# EAGLE library part TMCS1107A1BQDRQ1 (library TMCS1107A1BQDRQ1)
Board Mount Current Sensors AEC-Q100, +/-420-V isolated Hall-effect current sensor with internal reference 8-SOIC -40 to 125 Source: Datasheet <https://www.ti.com/lit/ds/symlink/tmcs1107-q1.pdf?ts=1634009705469&ref_url=https%3A%2F%2Fwww.ti.com%2Fsitesearch%2Fdocs%2Funiversalsearch.tsp%3FlangPref%3Den-US%26searchTerm%3DTMCS1107A4UQDRQ1%26nr%3D2>
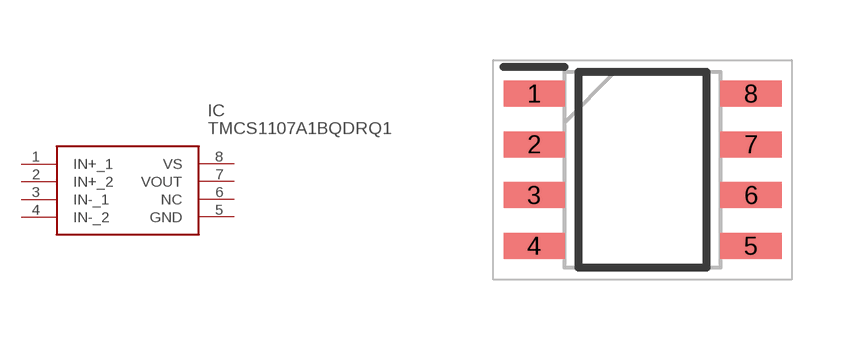
[diagram p0: symbol with the pads of SOIC127P600X175-8N; footprint SOIC127P600X175-8N]

Designator prefix IC

## TMCS1107A1BQDRQ1 (Arrow_Part_Number: TMCS1107A1BQDRQ1; Arrow_Price-Stock: https://www.arrow.com/en/products/tmcs1107a1bqdrq1/texas-instruments?utm_currency=USD&region=nac; Description: Board Mount Current Sensors AEC-Q100, +/-420-V isolated Hall-effect current sensor with internal reference 8-SOIC -40 to 125; Height: 1.75mm; Manufacturer_Name: Texas Instruments; Manufacturer_Part_Number: TMCS1107A1BQDRQ1; Mouser_Part_Number: 595-TMCS1107A1BQDRQ1; Mouser_Price-Stock: https://www.mouser.co.uk/ProductDetail/Texas-Instruments/TMCS1107A1BQDRQ1?qs=A6eO%252BMLsxmRDGOpu2d0NVw%3D%3D)  [SOIC127P600X175-8N]
1  IN+_1
2  IN+_2
3  IN-_1
4  IN-_2
5  GND
6  NC  nc
7  VOUT
8  VS

## Footprint SOIC127P600X175-8N (pad centres in mm)
D0008B HEIGHT 1.75
smd 1.528 x 0.65: 1 -2.711,1.905; 2 -2.711,0.635; 3 -2.711,-0.635; 4 -2.711,-1.905; 5 2.711,-1.905; 6 2.711,-0.635; 7 2.711,0.635; 8 2.711,1.905